# Altium footprint library AltiumMechanicalLibraryPCB.PcbLib: 2 footprints
Each footprint in its own frame and in the unit in brackets; x right, y up, seen from the top. Pads: shape width x height; smd on the part's side, far side on the other; paste and mask are expansions set on the pad; w line width, h text height; cw(c..) or ccw(c..) is an arc to the next point about the centre after c.
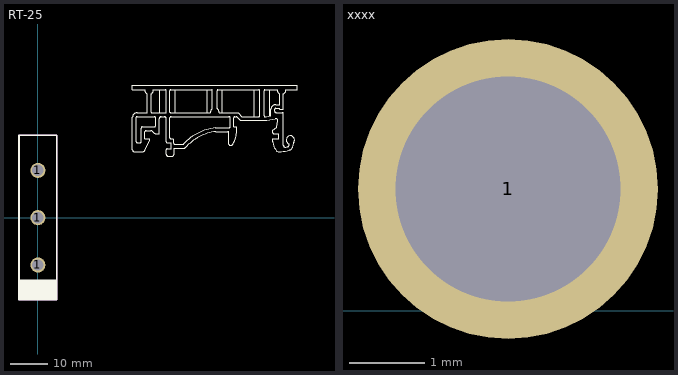
[diagram p0: the footprints below, top view; thin cyan lines are the x and y axes]

## RT-25 [mm]
pads (3):
  round 4 hole 3 unplated: 1(0,-12.5) 1(0,0) 1(0,12.5)
Top Overlay:
  drawing of 165 lines, arcs and shapes, not listed
Mechanical 29:
  lines w0.4: -5,-21.75 5,-21.75 5,21.75 -5,21.75 -5,-21.75
  text ".Designator" at -3.623,4.407 h1
3D body: height 5, standoff 0, extent 25.499,9.158 68.999,27.958
3D body: height -1.6, standoff -20.4, extent -5,-21.75 5,21.75

## xxxx [mm]
pads (1):
  round 4 hole 3 unplated: 1(7.8,1.625)
3D body: height 10, standoff 0, extent -14.467,-19.408 29.033,-0.608